# Altium integrated library 825433-9.IntLib: 1 symbol
Pins are listed as number, name and electrical type; pins without a type are passive.

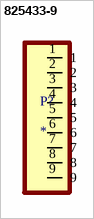
[diagram p0: symbol 825433-9]

## 825433-9
designator P?
Conn Unshrouded Header HDR 9 POS 2.54mm Solder ST Thru-Hole; MP: 825433-9; Package: None; Price: None; Value: *; Availability: Unavailable
footprint TE_825433-9
pins: 1, 2, 3, 4, 5, 6, 7, 8, 9